# Altium schematic symbol library TL071CP.SchLib: 1 symbol
Pins are listed as number, name and electrical type; pins without a type are passive.

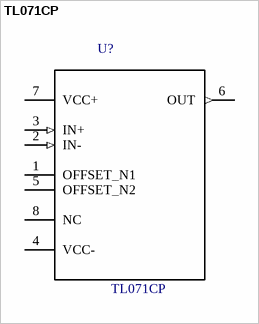
[diagram p0: symbol TL071CP]

## TL071CP
designator U?
J-FET Amplifier 1 Circuit 8-PDIP; MF: Texas Instruments; Availability: Unavailable; SnapEDA_Link: https://www.snapeda.com/parts/TL071CP/Texas%20Instruments/view-part/52481/?ref=snap; Price: None; MP: TL071CP; Package: DIP-8 Texas Instruments; Value: *
footprint *DIP254P762X508-8
pins: 1 OFFSET_N1, 2 IN- (in), 3 IN+ (in), 4 VCC- (power), 5 OFFSET_N2, 6 OUT (out), 7 VCC+ (power), 8 NC